# EAGLE library part 217183-0001 (library host)
Connector USB Type C Hybrid Female 24Positions 0.5mm Right Angle Through Hole Embossed T/R Source: Datasheet <https://www.molex.com/pdm_docs/sd/2171830001_sd.pdf>
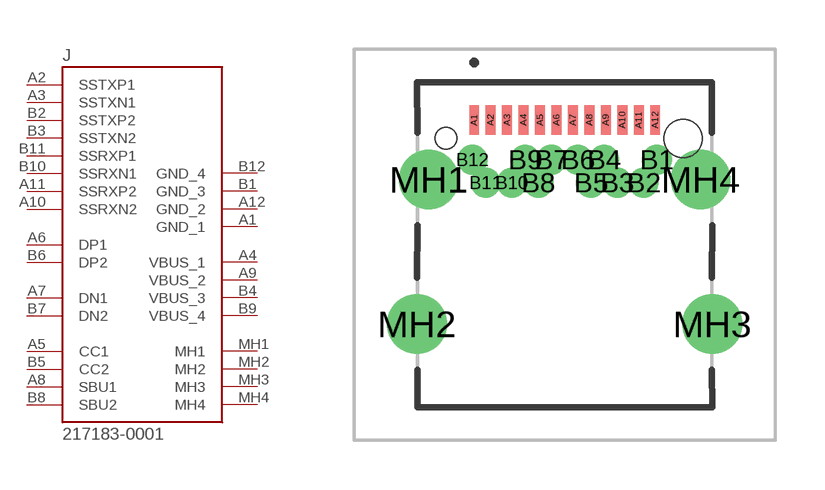
[diagram p2: symbol with the pads of 2171830001; footprint 2171830001]

Designator prefix J

## 217183-0001 (DESCRIPTION: Connector USB Type C Hybrid Female 24Positions 0.5mm Right Angle Through Hole Embossed T/R; HEIGHT: 3.36mm; MANUFACTURER_NAME: Molex; MANUFACTURER_PART_NUMBER: 217183-0001; MOUSER_PART_NUMBER: 538-217183-0001; MOUSER_PRICE-STOCK: https://www.mouser.co.uk/ProductDetail/Molex/217183-0001?qs=DRkmTr78QAQVjf9fqpgsow%3D%3D)  [2171830001]
A1  GND_1
A2  SSTXP1
A3  SSTXN1
A4  VBUS_1
A5  CC1
A6  DP1
A7  DN1
A8  SBU1
A9  VBUS_2
A10  SSRXN2
A11  SSRXP2
A12  GND_2
B1  GND_3
B2  SSTXP2
B3  SSTXN2
B4  VBUS_3
B5  CC2
B6  DP2
B7  DN2
B8  SBU2
B9  VBUS_4
B10  SSRXN1
B11  SSRXP1
B12  GND_4
MH1  MH1
MH2  MH2
MH3  MH3
MH4  MH4

## Footprint 2171830001 (pad centres in mm)
217183-0001-4
smd 0.3 x 0.9: A1 -2.75,3.795; A2 -2.25,3.795; A3 -1.75,3.795; A4 -1.25,3.795; A5 -0.75,3.795; A6 -0.25,3.795; A7 0.25,3.795; A8 0.75,3.795; A9 1.25,3.795; A10 1.75,3.795; A11 2.25,3.795; A12 2.75,3.795
drill 0.4 pad 0.65: B1 2.8,2.585; B2 2.4,1.885; B3 1.6,1.885; B4 1.2,2.585; B5 0.8,1.885; B6 0.4,2.585; B7 -0.4,2.585; B8 -0.8,1.885; B9 -1.2,2.585; B10 -1.6,1.885; B11 -2.4,1.885; B12 -2.8,2.585
drill 1.21 pad 1.815: MH1 -4.13,1.985; MH2 -4.49,-2.405; MH3 4.49,-2.405; MH4 4.13,1.985
hole 1.15 at 3.6,3.235
hole 0.65 at -3.6,3.235